# Altium schematic symbol library CD74HC123.SchLib: 1 symbol
Pins are listed as number, name and electrical type; pins without a type are passive.

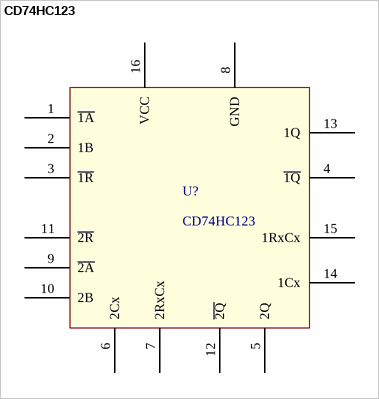
[diagram p0: symbol CD74HC123]

## CD74HC123
designator U?
footprint TSSOP-16 (Footprint not found)
pins: 1 ~{1A}, 2 1B, 3 ~{1R}, 4 ~{1Q}, 5 2Q, 6 2Cx, 7 2RxCx, 8 GND, 9 ~{2A}, 10 2B, 11 ~{2R}, 12 ~{2Q}, 13 1Q, 14 1Cx, 15 1RxCx, 16 VCC